# Altium footprint library INDP8279X40M.PcbLib: 1 footprints
Each footprint in its own frame and in the unit in brackets; x right, y up, seen from the top. Pads: shape width x height; smd on the part's side, far side on the other; paste and mask are expansions set on the pad; w line width, h text height; cw(c..) or ccw(c..) is an arc to the next point about the centre after c.
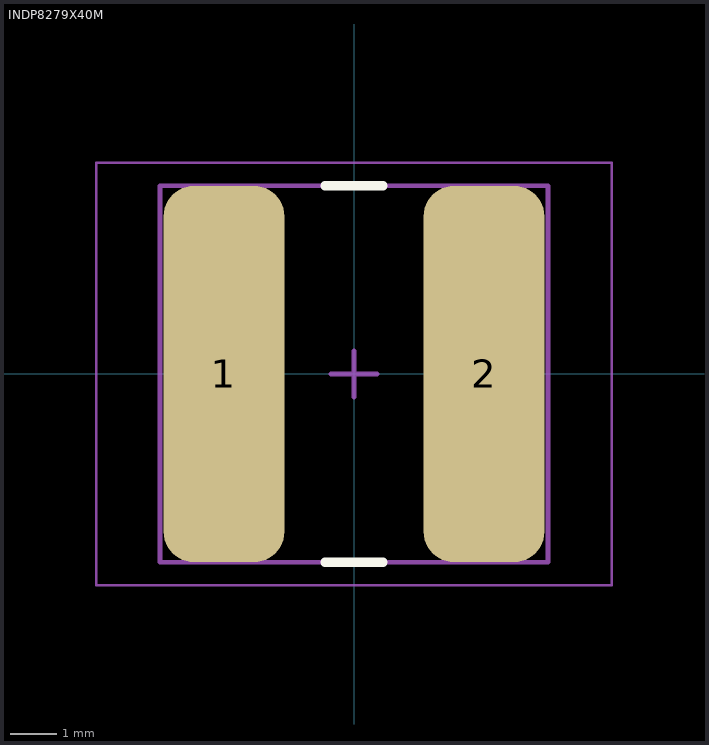
[diagram p0: the footprint, top view; thin cyan lines are the x and y axes]

## INDP8279X40M [mm] "Precision Wire Wound Inductor, 2-Leads, Body 8.15x7.90mm, IPC Low Density"
height 4
pads (2):
  rrect50% 2.6x8.1 smd: 1(-2.8,0) 2(2.8,0)
Top Overlay:
  lines w0.2: -0.625,-4.05 0.625,-4.05 ; -0.625,4.05 0.625,4.05
Mechanical 13:
  lines w0.1: -4.175,-4.05 4.175,-4.05 4.175,4.05 -4.175,4.05 -4.175,-4.05
Mechanical 15:
  lines w0.05: -5.55,-4.55 5.55,-4.55 5.55,4.55 -5.55,4.55 -5.55,-4.55
  lines w0.1: -0.5,0 0.5,0 ; 0,-0.5 0,0.5
3D body "Inductor SRN8040.step": height 4, standoff 0, extent -4.009,-4 4.009,4